# Altium schematic symbol library jlcpcb_2025_04_inductors_extended_1008.schlib: 378 symbols (part 3 of 7)
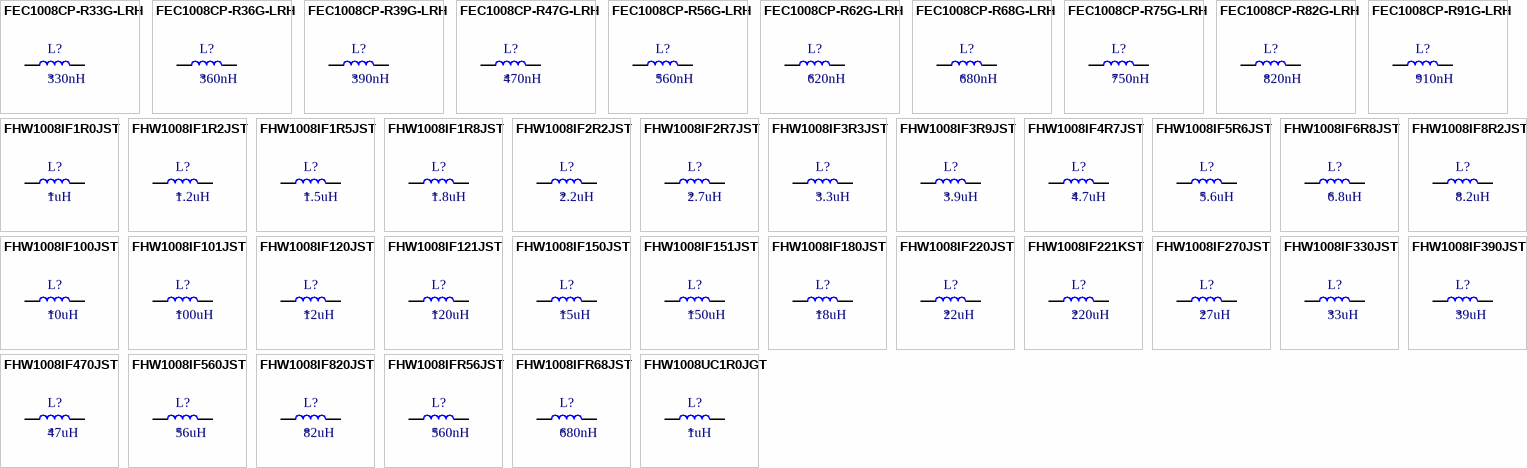
[diagram p11: symbols FEC1008CP-R33G-LRH to FHW1008UC1R0JGT]

## FHW1008IF151JST
designator L?  Inductance: 150uH
Inductor, 150uH, ±5%, 15Ω, 25mA, SMD 1008; Manufacturer: FH(Guangdong Fenghua Advanced Tech); Manufacturer Part Number: FHW1008IF151JST; Self-Resonant Frequency: 3MHz; Q Factor: 8@796kHz; Package Size: 1008; JLCPCB Basic Part: No; JLCPCB Part Number: C394079; Supplier 1: LCSC; Category: Inductors; Supplier Part Number 1: C394079; Tolerance: ±5%; Rated Current: 25mA; DC Resistance: 15Ω; RoHS: Yes; ComponentLink1Description: Datasheet; ComponentLink1URL: https://wmsc.lcsc.com/wmsc/upload/file/pdf/v2/lcsc/2303141830_FH--Guangdong-Fenghua-Advanced-Tech-FHW1008IF151JST_C394079.pdf; ComponentLink2Description: JLCPCB Part URL; ComponentLink2URL: https://jlcpcb.com/partdetail/C394079; ComponentLink3Description: LCSC Part URL; ComponentLink3URL: https://lcsc.com/product-detail/Inductors-SMD_FH-Guangdong-Fenghua-Advanced-Tech-FH-Guangdong-Fenghua-Advanced-Tech-FHW1008IF151JST_C394079.html
footprint IND-1008 (1008 (2520M) Inductor)
pins: 1, 2

## FHW1008IF180JST
designator L?  Inductance: 18uH
Inductor, 18uH, ±5%, 3Ω, 130mA, SMD 1008; Manufacturer: FH(Guangdong Fenghua Advanced Tech); Manufacturer Part Number: FHW1008IF180JST; Self-Resonant Frequency: 20MHz; Q Factor: 10@2.52MHz; Package Size: 1008; JLCPCB Basic Part: No; JLCPCB Part Number: C394068; Supplier 1: LCSC; Category: Inductors; Supplier Part Number 1: C394068; Tolerance: ±5%; Rated Current: 130mA; DC Resistance: 3Ω; RoHS: Yes; ComponentLink1Description: Datasheet; ComponentLink1URL: https://wmsc.lcsc.com/wmsc/upload/file/pdf/v2/lcsc/2303141830_FH--Guangdong-Fenghua-Advanced-Tech-FHW1008IF180JST_C394068.pdf; ComponentLink2Description: JLCPCB Part URL; ComponentLink2URL: https://jlcpcb.com/partdetail/C394068; ComponentLink3Description: LCSC Part URL; ComponentLink3URL: https://lcsc.com/product-detail/Inductors-SMD_FH-Guangdong-Fenghua-Advanced-Tech-FH-Guangdong-Fenghua-Advanced-Tech-FHW1008IF180JST_C394068.html
footprint IND-1008 (1008 (2520M) Inductor)
pins: 1, 2

## FHW1008IF220JST
designator L?  Inductance: 22uH
Inductor, 22uH, ±5%, 3.9Ω, 105mA, SMD 1008; Manufacturer: FH(Guangdong Fenghua Advanced Tech); Manufacturer Part Number: FHW1008IF220JST; Self-Resonant Frequency: 18MHz; Q Factor: 10@2.52MHz; Package Size: 1008; JLCPCB Basic Part: No; JLCPCB Part Number: C394069; Supplier 1: LCSC; Category: Inductors; Supplier Part Number 1: C394069; Tolerance: ±5%; Rated Current: 105mA; DC Resistance: 3.9Ω; RoHS: Yes; ComponentLink1Description: Datasheet; ComponentLink1URL: https://wmsc.lcsc.com/wmsc/upload/file/pdf/v2/lcsc/2303141830_FH--Guangdong-Fenghua-Advanced-Tech-FHW1008IF220JST_C394069.pdf; ComponentLink2Description: JLCPCB Part URL; ComponentLink2URL: https://jlcpcb.com/partdetail/C394069; ComponentLink3Description: LCSC Part URL; ComponentLink3URL: https://lcsc.com/product-detail/Inductors-SMD_FH-Guangdong-Fenghua-Advanced-Tech-FH-Guangdong-Fenghua-Advanced-Tech-FHW1008IF220JST_C394069.html
footprint IND-1008 (1008 (2520M) Inductor)
pins: 1, 2

## FHW1008IF221KST
designator L?  Inductance: 220uH
Inductor, 220uH, ±10%, 18Ω, 20mA, SMD 1008; Manufacturer: FH(Guangdong Fenghua Advanced Tech); Manufacturer Part Number: FHW1008IF221KST; Self-Resonant Frequency: 2.5MHz; Q Factor: 8@796kHz; Package Size: 1008; JLCPCB Basic Part: No; JLCPCB Part Number: C394080; Supplier 1: LCSC; Category: Inductors; Supplier Part Number 1: C394080; Tolerance: ±10%; Rated Current: 20mA; DC Resistance: 18Ω; RoHS: Yes; ComponentLink1Description: Datasheet; ComponentLink1URL: https://wmsc.lcsc.com/wmsc/upload/file/pdf/v2/lcsc/2303141830_FH--Guangdong-Fenghua-Advanced-Tech-FHW1008IF221KST_C394080.pdf; ComponentLink2Description: JLCPCB Part URL; ComponentLink2URL: https://jlcpcb.com/partdetail/C394080; ComponentLink3Description: LCSC Part URL; ComponentLink3URL: https://lcsc.com/product-detail/Inductors-SMD_FH-Guangdong-Fenghua-Advanced-Tech-FH-Guangdong-Fenghua-Advanced-Tech-FHW1008IF221KST_C394080.html
footprint IND-1008 (1008 (2520M) Inductor)
pins: 1, 2

## FHW1008IF270JST
designator L?  Inductance: 27uH
Inductor, 27uH, ±5%, 4Ω, 100mA, SMD 1008; Manufacturer: FH(Guangdong Fenghua Advanced Tech); Manufacturer Part Number: FHW1008IF270JST; Self-Resonant Frequency: 10MHz; Q Factor: 10@2.52MHz; Package Size: 1008; JLCPCB Basic Part: No; JLCPCB Part Number: C394070; Supplier 1: LCSC; Category: Inductors; Supplier Part Number 1: C394070; Tolerance: ±5%; Rated Current: 100mA; DC Resistance: 4Ω; RoHS: Yes; ComponentLink1Description: Datasheet; ComponentLink1URL: https://wmsc.lcsc.com/wmsc/upload/file/pdf/v2/lcsc/2303141830_FH--Guangdong-Fenghua-Advanced-Tech-FHW1008IF270JST_C394070.pdf; ComponentLink2Description: JLCPCB Part URL; ComponentLink2URL: https://jlcpcb.com/partdetail/C394070; ComponentLink3Description: LCSC Part URL; ComponentLink3URL: https://lcsc.com/product-detail/Inductors-SMD_FH-Guangdong-Fenghua-Advanced-Tech-FH-Guangdong-Fenghua-Advanced-Tech-FHW1008IF270JST_C394070.html
footprint IND-1008 (1008 (2520M) Inductor)
pins: 1, 2

## FHW1008IF330JST
designator L?  Inductance: 33uH
Inductor, 33uH, ±5%, 4.8Ω, 85mA, SMD 1008; Manufacturer: FH(Guangdong Fenghua Advanced Tech); Manufacturer Part Number: FHW1008IF330JST; Self-Resonant Frequency: 8MHz; Q Factor: 10@2.52MHz; Package Size: 1008; JLCPCB Basic Part: No; JLCPCB Part Number: C394071; Supplier 1: LCSC; Category: Inductors; Supplier Part Number 1: C394071; Tolerance: ±5%; Rated Current: 85mA; DC Resistance: 4.8Ω; RoHS: Yes; ComponentLink1Description: Datasheet; ComponentLink1URL: https://wmsc.lcsc.com/wmsc/upload/file/pdf/v2/lcsc/2303141830_FH--Guangdong-Fenghua-Advanced-Tech-FHW1008IF330JST_C394071.pdf; ComponentLink2Description: JLCPCB Part URL; ComponentLink2URL: https://jlcpcb.com/partdetail/C394071; ComponentLink3Description: LCSC Part URL; ComponentLink3URL: https://lcsc.com/product-detail/Inductors-SMD_FH-Guangdong-Fenghua-Advanced-Tech-FH-Guangdong-Fenghua-Advanced-Tech-FHW1008IF330JST_C394071.html
footprint IND-1008 (1008 (2520M) Inductor)
pins: 1, 2

## FHW1008IF390JST
designator L?  Inductance: 39uH
Inductor, 39uH, ±5%, 5Ω, 80mA, SMD 1008; Manufacturer: FH(Guangdong Fenghua Advanced Tech); Manufacturer Part Number: FHW1008IF390JST; Self-Resonant Frequency: 7MHz; Q Factor: 10@2.52MHz; Package Size: 1008; JLCPCB Basic Part: No; JLCPCB Part Number: C394072; Supplier 1: LCSC; Category: Inductors; Supplier Part Number 1: C394072; Tolerance: ±5%; Rated Current: 80mA; DC Resistance: 5Ω; RoHS: Yes; ComponentLink1Description: Datasheet; ComponentLink1URL: https://wmsc.lcsc.com/wmsc/upload/file/pdf/v2/lcsc/2303141830_FH--Guangdong-Fenghua-Advanced-Tech-FHW1008IF390JST_C394072.pdf; ComponentLink2Description: JLCPCB Part URL; ComponentLink2URL: https://jlcpcb.com/partdetail/C394072; ComponentLink3Description: LCSC Part URL; ComponentLink3URL: https://lcsc.com/product-detail/Inductors-SMD_FH-Guangdong-Fenghua-Advanced-Tech-FH-Guangdong-Fenghua-Advanced-Tech-FHW1008IF390JST_C394072.html
footprint IND-1008 (1008 (2520M) Inductor)
pins: 1, 2

## FHW1008IF470JST
designator L?  Inductance: 47uH
Inductor, 47uH, ±5%, 5.7Ω, 60mA, SMD 1008; Manufacturer: FH(Guangdong Fenghua Advanced Tech); Manufacturer Part Number: FHW1008IF470JST; Self-Resonant Frequency: 7MHz; Q Factor: 10@2.52MHz; Package Size: 1008; JLCPCB Basic Part: No; JLCPCB Part Number: C394073; Supplier 1: LCSC; Category: Inductors; Supplier Part Number 1: C394073; Tolerance: ±5%; Rated Current: 60mA; DC Resistance: 5.7Ω; RoHS: Yes; ComponentLink1Description: Datasheet; ComponentLink1URL: https://wmsc.lcsc.com/wmsc/upload/file/pdf/v2/lcsc/2303141830_FH--Guangdong-Fenghua-Advanced-Tech-FHW1008IF470JST_C394073.pdf; ComponentLink2Description: JLCPCB Part URL; ComponentLink2URL: https://jlcpcb.com/partdetail/C394073; ComponentLink3Description: LCSC Part URL; ComponentLink3URL: https://lcsc.com/product-detail/Inductors-SMD_FH-Guangdong-Fenghua-Advanced-Tech-FH-Guangdong-Fenghua-Advanced-Tech-FHW1008IF470JST_C394073.html
footprint IND-1008 (1008 (2520M) Inductor)
pins: 1, 2

## FHW1008IF560JST
designator L?  Inductance: 56uH
Inductor, 56uH, ±5%, 6Ω, 55mA, SMD 1008; Manufacturer: FH(Guangdong Fenghua Advanced Tech); Manufacturer Part Number: FHW1008IF560JST; Self-Resonant Frequency: 6.5MHz; Q Factor: 10@2.52MHz; Package Size: 1008; JLCPCB Basic Part: No; JLCPCB Part Number: C394074; Supplier 1: LCSC; Category: Inductors; Supplier Part Number 1: C394074; Tolerance: ±5%; Rated Current: 55mA; DC Resistance: 6Ω; RoHS: Yes; ComponentLink1Description: Datasheet; ComponentLink1URL: https://wmsc.lcsc.com/wmsc/upload/file/pdf/v2/lcsc/2303141830_FH--Guangdong-Fenghua-Advanced-Tech-FHW1008IF560JST_C394074.pdf; ComponentLink2Description: JLCPCB Part URL; ComponentLink2URL: https://jlcpcb.com/partdetail/C394074; ComponentLink3Description: LCSC Part URL; ComponentLink3URL: https://lcsc.com/product-detail/Inductors-SMD_FH-Guangdong-Fenghua-Advanced-Tech-FH-Guangdong-Fenghua-Advanced-Tech-FHW1008IF560JST_C394074.html
footprint IND-1008 (1008 (2520M) Inductor)
pins: 1, 2

## FHW1008IF820JST
designator L?  Inductance: 82uH
Inductor, 82uH, ±5%, 7.5Ω, 45mA, SMD 1008; Manufacturer: FH(Guangdong Fenghua Advanced Tech); Manufacturer Part Number: FHW1008IF820JST; Self-Resonant Frequency: 6.5MHz; Q Factor: 10@2.52MHz; Package Size: 1008; JLCPCB Basic Part: No; JLCPCB Part Number: C394076; Supplier 1: LCSC; Category: Inductors; Supplier Part Number 1: C394076; Tolerance: ±5%; Rated Current: 45mA; DC Resistance: 7.5Ω; RoHS: Yes; ComponentLink1Description: Datasheet; ComponentLink1URL: https://wmsc.lcsc.com/wmsc/upload/file/pdf/v2/lcsc/2303141830_FH--Guangdong-Fenghua-Advanced-Tech-FHW1008IF820JST_C394076.pdf; ComponentLink2Description: JLCPCB Part URL; ComponentLink2URL: https://jlcpcb.com/partdetail/C394076; ComponentLink3Description: LCSC Part URL; ComponentLink3URL: https://lcsc.com/product-detail/Inductors-SMD_FH-Guangdong-Fenghua-Advanced-Tech-FH-Guangdong-Fenghua-Advanced-Tech-FHW1008IF820JST_C394076.html
footprint IND-1008 (1008 (2520M) Inductor)
pins: 1, 2

## FHW1008IFR56JST
designator L?  Inductance: 560nH
Inductor, 560nH, ±5%, 420mΩ, 600mA, SMD 1008; Manufacturer: FH(Guangdong Fenghua Advanced Tech); Manufacturer Part Number: FHW1008IFR56JST; Self-Resonant Frequency: 330MHz; Q Factor: 12@25.2MHz; Package Size: 1008; JLCPCB Basic Part: No; JLCPCB Part Number: C394001; Supplier 1: LCSC; Category: Inductors; Supplier Part Number 1: C394001; Tolerance: ±5%; Rated Current: 600mA; DC Resistance: 420mΩ; RoHS: Yes; ComponentLink1Description: Datasheet; ComponentLink1URL: https://wmsc.lcsc.com/wmsc/upload/file/pdf/v2/lcsc/2303141830_FH--Guangdong-Fenghua-Advanced-Tech-FHW1008IFR56JST_C394001.pdf; ComponentLink2Description: JLCPCB Part URL; ComponentLink2URL: https://jlcpcb.com/partdetail/C394001; ComponentLink3Description: LCSC Part URL; ComponentLink3URL: https://lcsc.com/product-detail/Inductors-SMD_FH-Guangdong-Fenghua-Advanced-Tech-FH-Guangdong-Fenghua-Advanced-Tech-FHW1008IFR56JST_C394001.html
footprint IND-1008 (1008 (2520M) Inductor)
pins: 1, 2

## FHW1008IFR68JST
designator L?  Inductance: 680nH
Inductor, 680nH, ±5%, 450mΩ, 600mA, SMD 1008; Manufacturer: FH(Guangdong Fenghua Advanced Tech); Manufacturer Part Number: FHW1008IFR68JST; Self-Resonant Frequency: 330MHz; Q Factor: 12@25.2MHz; Package Size: 1008; JLCPCB Basic Part: No; JLCPCB Part Number: C394002; Supplier 1: LCSC; Category: Inductors; Supplier Part Number 1: C394002; Tolerance: ±5%; Rated Current: 600mA; DC Resistance: 450mΩ; RoHS: Yes; ComponentLink1Description: Datasheet; ComponentLink1URL: https://wmsc.lcsc.com/wmsc/upload/file/pdf/v2/lcsc/2303141830_FH--Guangdong-Fenghua-Advanced-Tech-FHW1008IFR68JST_C394002.pdf; ComponentLink2Description: JLCPCB Part URL; ComponentLink2URL: https://jlcpcb.com/partdetail/C394002; ComponentLink3Description: LCSC Part URL; ComponentLink3URL: https://lcsc.com/product-detail/Inductors-SMD_FH-Guangdong-Fenghua-Advanced-Tech-FH-Guangdong-Fenghua-Advanced-Tech-FHW1008IFR68JST_C394002.html
footprint IND-1008 (1008 (2520M) Inductor)
pins: 1, 2

## FHW1008UC1R0JGT
designator L?  Inductance: 1uH
Inductor, 1uH, ±5%, 1.75Ω, 370mA, SMD 1008; Manufacturer: FH(Guangdong Fenghua Advanced Tech); Manufacturer Part Number: FHW1008UC1R0JGT; Self-Resonant Frequency: 210MHz; Q Factor: 35@50MHz; Package Size: 1008; JLCPCB Basic Part: No; JLCPCB Part Number: C318016; Supplier 1: LCSC; Category: Inductors; Supplier Part Number 1: C318016; Tolerance: ±5%; Rated Current: 370mA; DC Resistance: 1.75Ω; RoHS: Yes; ComponentLink1Description: Datasheet; ComponentLink1URL: https://wmsc.lcsc.com/wmsc/upload/file/pdf/v2/lcsc/2302231208_FH--Guangdong-Fenghua-Advanced-Tech-FHW1008UC1R0JGT_C318016.pdf; ComponentLink2Description: JLCPCB Part URL; ComponentLink2URL: https://jlcpcb.com/partdetail/C318016; ComponentLink3Description: LCSC Part URL; ComponentLink3URL: https://lcsc.com/product-detail/Inductors-SMD_FH-Guangdong-Fenghua-Advanced-Tech-FH-Guangdong-Fenghua-Advanced-Tech-FHW1008UC1R0JGT_C318016.html
footprint IND-1008 (1008 (2520M) Inductor)
pins: 1, 2

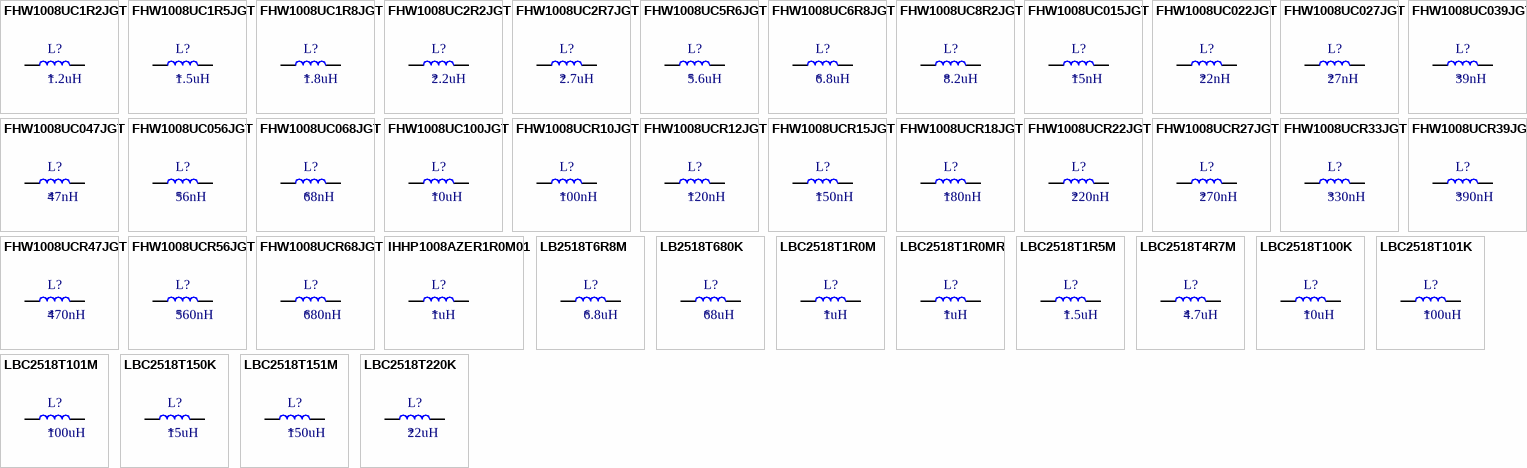
[diagram p3: symbols FHW1008UC1R2JGT to LBC2518T220K]

## FHW1008UC1R2JGT
designator L?  Inductance: 1.2uH
Inductor, 1.2uH, ±5%, 2Ω, 310mA, SMD 1008; Manufacturer: FH(Guangdong Fenghua Advanced Tech); Manufacturer Part Number: FHW1008UC1R2JGT; Self-Resonant Frequency: 200MHz; Q Factor: 35@50MHz; Package Size: 1008; JLCPCB Basic Part: No; JLCPCB Part Number: C318017; Supplier 1: LCSC; Category: Inductors; Supplier Part Number 1: C318017; Tolerance: ±5%; Rated Current: 310mA; DC Resistance: 2Ω; RoHS: Yes; ComponentLink1Description: Datasheet; ComponentLink1URL: https://wmsc.lcsc.com/wmsc/upload/file/pdf/v2/lcsc/2302231208_FH--Guangdong-Fenghua-Advanced-Tech-FHW1008UC1R2JGT_C318017.pdf; ComponentLink2Description: JLCPCB Part URL; ComponentLink2URL: https://jlcpcb.com/partdetail/C318017; ComponentLink3Description: LCSC Part URL; ComponentLink3URL: https://lcsc.com/product-detail/Inductors-SMD_FH-Guangdong-Fenghua-Advanced-Tech-FH-Guangdong-Fenghua-Advanced-Tech-FHW1008UC1R2JGT_C318017.html
footprint IND-1008 (1008 (2520M) Inductor)
pins: 1, 2

## FHW1008UC1R5JGT
designator L?  Inductance: 1.5uH
Inductor, 1.5uH, ±5%, 2.3Ω, 330mA, SMD 1008; Manufacturer: FH(Guangdong Fenghua Advanced Tech); Manufacturer Part Number: FHW1008UC1R5JGT; Self-Resonant Frequency: 180MHz; Q Factor: 28@50MHz; Package Size: 1008; JLCPCB Basic Part: No; JLCPCB Part Number: C318018; Supplier 1: LCSC; Category: Inductors; Supplier Part Number 1: C318018; Tolerance: ±5%; Rated Current: 330mA; DC Resistance: 2.3Ω; RoHS: Yes; ComponentLink1Description: Datasheet; ComponentLink1URL: https://wmsc.lcsc.com/wmsc/upload/file/pdf/v2/lcsc/2302231030_FH--Guangdong-Fenghua-Advanced-Tech-FHW1008UC1R5JGT_C318018.pdf; ComponentLink2Description: JLCPCB Part URL; ComponentLink2URL: https://jlcpcb.com/partdetail/C318018; ComponentLink3Description: LCSC Part URL; ComponentLink3URL: https://lcsc.com/product-detail/Inductors-SMD_FH-Guangdong-Fenghua-Advanced-Tech-FH-Guangdong-Fenghua-Advanced-Tech-FHW1008UC1R5JGT_C318018.html
footprint IND-1008 (1008 (2520M) Inductor)
pins: 1, 2

## FHW1008UC1R8JGT
designator L?  Inductance: 1.8uH
Inductor, 1.8uH, ±5%, 2.6Ω, 300mA, SMD 1008; Manufacturer: FH(Guangdong Fenghua Advanced Tech); Manufacturer Part Number: FHW1008UC1R8JGT; Self-Resonant Frequency: 160MHz; Q Factor: 28@50MHz; Package Size: 1008; JLCPCB Basic Part: No; JLCPCB Part Number: C318019; Supplier 1: LCSC; Category: Inductors; Supplier Part Number 1: C318019; Tolerance: ±5%; Rated Current: 300mA; DC Resistance: 2.6Ω; RoHS: Yes; ComponentLink1Description: Datasheet; ComponentLink1URL: https://wmsc.lcsc.com/wmsc/upload/file/pdf/v2/lcsc/2302231030_FH--Guangdong-Fenghua-Advanced-Tech-FHW1008UC1R8JGT_C318019.pdf; ComponentLink2Description: JLCPCB Part URL; ComponentLink2URL: https://jlcpcb.com/partdetail/C318019; ComponentLink3Description: LCSC Part URL; ComponentLink3URL: https://lcsc.com/product-detail/Inductors-SMD_FH-Guangdong-Fenghua-Advanced-Tech-FH-Guangdong-Fenghua-Advanced-Tech-FHW1008UC1R8JGT_C318019.html
footprint IND-1008 (1008 (2520M) Inductor)
pins: 1, 2

## FHW1008UC2R2JGT
designator L?  Inductance: 2.2uH
Inductor, 2.2uH, ±5%, 2.8Ω, 280mA, SMD 1008; Manufacturer: FH(Guangdong Fenghua Advanced Tech); Manufacturer Part Number: FHW1008UC2R2JGT; Self-Resonant Frequency: 90MHz; Q Factor: 20@50MHz; Package Size: 1008; JLCPCB Basic Part: No; JLCPCB Part Number: C318020; Supplier 1: LCSC; Category: Inductors; Supplier Part Number 1: C318020; Tolerance: ±5%; Rated Current: 280mA; DC Resistance: 2.8Ω; RoHS: Yes; ComponentLink1Description: Datasheet; ComponentLink1URL: https://wmsc.lcsc.com/wmsc/upload/file/pdf/v2/lcsc/2302231030_FH--Guangdong-Fenghua-Advanced-Tech-FHW1008UC2R2JGT_C318020.pdf; ComponentLink2Description: JLCPCB Part URL; ComponentLink2URL: https://jlcpcb.com/partdetail/C318020; ComponentLink3Description: LCSC Part URL; ComponentLink3URL: https://lcsc.com/product-detail/Inductors-SMD_FH-Guangdong-Fenghua-Advanced-Tech-FH-Guangdong-Fenghua-Advanced-Tech-FHW1008UC2R2JGT_C318020.html
footprint IND-1008 (1008 (2520M) Inductor)
pins: 1, 2

## FHW1008UC2R7JGT
designator L?  Inductance: 2.7uH
Inductor, 2.7uH, ±5%, 3.2Ω, 290mA, SMD 1008; Manufacturer: FH(Guangdong Fenghua Advanced Tech); Manufacturer Part Number: FHW1008UC2R7JGT; Self-Resonant Frequency: 80MHz; Q Factor: 22@25MHz; Package Size: 1008; JLCPCB Basic Part: No; JLCPCB Part Number: C318021; Supplier 1: LCSC; Category: Inductors; Supplier Part Number 1: C318021; Tolerance: ±5%; Rated Current: 290mA; DC Resistance: 3.2Ω; RoHS: Yes; ComponentLink1Description: Datasheet; ComponentLink1URL: https://wmsc.lcsc.com/wmsc/upload/file/pdf/v2/lcsc/2302231030_FH--Guangdong-Fenghua-Advanced-Tech-FHW1008UC2R7JGT_C318021.pdf; ComponentLink2Description: JLCPCB Part URL; ComponentLink2URL: https://jlcpcb.com/partdetail/C318021; ComponentLink3Description: LCSC Part URL; ComponentLink3URL: https://lcsc.com/product-detail/Inductors-SMD_FH-Guangdong-Fenghua-Advanced-Tech-FH-Guangdong-Fenghua-Advanced-Tech-FHW1008UC2R7JGT_C318021.html
footprint IND-1008 (1008 (2520M) Inductor)
pins: 1, 2

## FHW1008UC5R6JGT
designator L?  Inductance: 5.6uH
Inductor, 5.6uH, ±5%, 7.6Ω, 240mA, SMD 1008; Manufacturer: FH(Guangdong Fenghua Advanced Tech); Manufacturer Part Number: FHW1008UC5R6JGT; Self-Resonant Frequency: 55MHz; Q Factor: 18@7.9MHz; Package Size: 1008; JLCPCB Basic Part: No; JLCPCB Part Number: C318025; Supplier 1: LCSC; Category: Inductors; Supplier Part Number 1: C318025; Tolerance: ±5%; Rated Current: 240mA; DC Resistance: 7.6Ω; RoHS: Yes; ComponentLink1Description: Datasheet; ComponentLink1URL: https://wmsc.lcsc.com/wmsc/upload/file/pdf/v2/lcsc/2302231030_FH--Guangdong-Fenghua-Advanced-Tech-FHW1008UC5R6JGT_C318025.pdf; ComponentLink2Description: JLCPCB Part URL; ComponentLink2URL: https://jlcpcb.com/partdetail/C318025; ComponentLink3Description: LCSC Part URL; ComponentLink3URL: https://lcsc.com/product-detail/Inductors-SMD_FH-Guangdong-Fenghua-Advanced-Tech-FH-Guangdong-Fenghua-Advanced-Tech-FHW1008UC5R6JGT_C318025.html
footprint IND-1008 (1008 (2520M) Inductor)
pins: 1, 2

## FHW1008UC6R8JGT
designator L?  Inductance: 6.8uH
Inductor, 6.8uH, ±5%, 8.2Ω, 200mA, SMD 1008; Manufacturer: FH(Guangdong Fenghua Advanced Tech); Manufacturer Part Number: FHW1008UC6R8JGT; Self-Resonant Frequency: 50MHz; Q Factor: 18@7.9MHz; Package Size: 1008; JLCPCB Basic Part: No; JLCPCB Part Number: C318026; Supplier 1: LCSC; Category: Inductors; Supplier Part Number 1: C318026; Tolerance: ±5%; Rated Current: 200mA; DC Resistance: 8.2Ω; RoHS: Yes; ComponentLink1Description: Datasheet; ComponentLink1URL: https://wmsc.lcsc.com/wmsc/upload/file/pdf/v2/lcsc/2302231030_FH--Guangdong-Fenghua-Advanced-Tech-FHW1008UC6R8JGT_C318026.pdf; ComponentLink2Description: JLCPCB Part URL; ComponentLink2URL: https://jlcpcb.com/partdetail/C318026; ComponentLink3Description: LCSC Part URL; ComponentLink3URL: https://lcsc.com/product-detail/Inductors-SMD_FH-Guangdong-Fenghua-Advanced-Tech-FH-Guangdong-Fenghua-Advanced-Tech-FHW1008UC6R8JGT_C318026.html
footprint IND-1008 (1008 (2520M) Inductor)
pins: 1, 2

## FHW1008UC8R2JGT
designator L?  Inductance: 8.2uH
Inductor, 8.2uH, ±5%, 8.2Ω, 170mA, SMD 1008; Manufacturer: FH(Guangdong Fenghua Advanced Tech); Manufacturer Part Number: FHW1008UC8R2JGT; Self-Resonant Frequency: 40MHz; Q Factor: 18@7.9MHz; Package Size: 1008; JLCPCB Basic Part: No; JLCPCB Part Number: C318027; Supplier 1: LCSC; Category: Inductors; Supplier Part Number 1: C318027; Tolerance: ±5%; Rated Current: 170mA; DC Resistance: 8.2Ω; RoHS: Yes; ComponentLink1Description: Datasheet; ComponentLink1URL: https://wmsc.lcsc.com/wmsc/upload/file/pdf/v2/lcsc/2302231030_FH--Guangdong-Fenghua-Advanced-Tech-FHW1008UC8R2JGT_C318027.pdf; ComponentLink2Description: JLCPCB Part URL; ComponentLink2URL: https://jlcpcb.com/partdetail/C318027; ComponentLink3Description: LCSC Part URL; ComponentLink3URL: https://lcsc.com/product-detail/Inductors-SMD_FH-Guangdong-Fenghua-Advanced-Tech-FH-Guangdong-Fenghua-Advanced-Tech-FHW1008UC8R2JGT_C318027.html
footprint IND-1008 (1008 (2520M) Inductor)
pins: 1, 2

## FHW1008UC015JGT
designator L?  Inductance: 15nH
Inductor, 15nH, ±5%, 150mΩ, 1A, SMD 1008; Manufacturer: FH(Guangdong Fenghua Advanced Tech); Manufacturer Part Number: FHW1008UC015JGT; Self-Resonant Frequency: 2.5GHz; Q Factor: 45@500MHz; Package Size: 1008; JLCPCB Basic Part: No; JLCPCB Part Number: C75641; Supplier 1: LCSC; Category: Inductors; Supplier Part Number 1: C75641; Tolerance: ±5%; Rated Current: 1A; DC Resistance: 150mΩ; RoHS: Yes; ComponentLink1Description: Datasheet; ComponentLink1URL: https://wmsc.lcsc.com/wmsc/upload/file/pdf/v2/lcsc/2302231101_FH--Guangdong-Fenghua-Advanced-Tech-FHW1008UC015JGT_C75641.pdf; ComponentLink2Description: JLCPCB Part URL; ComponentLink2URL: https://jlcpcb.com/partdetail/C75641; ComponentLink3Description: LCSC Part URL; ComponentLink3URL: https://lcsc.com/product-detail/Inductors-SMD_FH-Guangdong-Fenghua-Advanced-Tech-FH-Guangdong-Fenghua-Advanced-Tech-FHW1008UC015JGT_C75641.html
footprint IND-1008 (1008 (2520M) Inductor)
pins: 1, 2

## FHW1008UC022JGT
designator L?  Inductance: 22nH
Inductor, 22nH, ±5%, 120mΩ, 1A, SMD 1008; Manufacturer: FH(Guangdong Fenghua Advanced Tech); Manufacturer Part Number: FHW1008UC022JGT; Self-Resonant Frequency: 2.4GHz; Q Factor: 55@350MHz; Package Size: 1008; JLCPCB Basic Part: No; JLCPCB Part Number: C317999; Supplier 1: LCSC; Category: Inductors; Supplier Part Number 1: C317999; Tolerance: ±5%; Rated Current: 1A; DC Resistance: 120mΩ; RoHS: Yes; ComponentLink1Description: Datasheet; ComponentLink1URL: https://wmsc.lcsc.com/wmsc/upload/file/pdf/v2/lcsc/2302231208_FH--Guangdong-Fenghua-Advanced-Tech-FHW1008UC022JGT_C317999.pdf; ComponentLink2Description: JLCPCB Part URL; ComponentLink2URL: https://jlcpcb.com/partdetail/C317999; ComponentLink3Description: LCSC Part URL; ComponentLink3URL: https://lcsc.com/product-detail/Inductors-SMD_FH-Guangdong-Fenghua-Advanced-Tech-FH-Guangdong-Fenghua-Advanced-Tech-FHW1008UC022JGT_C317999.html
footprint IND-1008 (1008 (2520M) Inductor)
pins: 1, 2

## FHW1008UC027JGT
designator L?  Inductance: 27nH
Inductor, 27nH, ±5%, 130mΩ, 1A, SMD 1008; Manufacturer: FH(Guangdong Fenghua Advanced Tech); Manufacturer Part Number: FHW1008UC027JGT; Self-Resonant Frequency: 1.6GHz; Q Factor: 55@350MHz; Package Size: 1008; JLCPCB Basic Part: No; JLCPCB Part Number: C295708; Supplier 1: LCSC; Category: Inductors; Supplier Part Number 1: C295708; Tolerance: ±5%; Rated Current: 1A; DC Resistance: 130mΩ; RoHS: Yes; ComponentLink1Description: Datasheet; ComponentLink1URL: https://wmsc.lcsc.com/wmsc/upload/file/pdf/v2/lcsc/2302231208_FH--Guangdong-Fenghua-Advanced-Tech-FHW1008UC027JGT_C295708.pdf; ComponentLink2Description: JLCPCB Part URL; ComponentLink2URL: https://jlcpcb.com/partdetail/C295708; ComponentLink3Description: LCSC Part URL; ComponentLink3URL: https://lcsc.com/product-detail/Inductors-SMD_FH-Guangdong-Fenghua-Advanced-Tech-FH-Guangdong-Fenghua-Advanced-Tech-FHW1008UC027JGT_C295708.html
footprint IND-1008 (1008 (2520M) Inductor)
pins: 1, 2

## FHW1008UC039JGT
designator L?  Inductance: 39nH
Inductor, 39nH, ±5%, 150mΩ, 1A, SMD 1008; Manufacturer: FH(Guangdong Fenghua Advanced Tech); Manufacturer Part Number: FHW1008UC039JGT; Self-Resonant Frequency: 1.5GHz; Q Factor: 60@350MHz; Package Size: 1008; JLCPCB Basic Part: No; JLCPCB Part Number: C318001; Supplier 1: LCSC; Category: Inductors; Supplier Part Number 1: C318001; Tolerance: ±5%; Rated Current: 1A; DC Resistance: 150mΩ; RoHS: Yes; ComponentLink1Description: Datasheet; ComponentLink1URL: https://wmsc.lcsc.com/wmsc/upload/file/pdf/v2/lcsc/2302231208_FH--Guangdong-Fenghua-Advanced-Tech-FHW1008UC039JGT_C318001.pdf; ComponentLink2Description: JLCPCB Part URL; ComponentLink2URL: https://jlcpcb.com/partdetail/C318001; ComponentLink3Description: LCSC Part URL; ComponentLink3URL: https://lcsc.com/product-detail/Inductors-SMD_FH-Guangdong-Fenghua-Advanced-Tech-FH-Guangdong-Fenghua-Advanced-Tech-FHW1008UC039JGT_C318001.html
footprint IND-1008 (1008 (2520M) Inductor)
pins: 1, 2

## FHW1008UC047JGT
designator L?  Inductance: 47nH
Inductor, 47nH, ±5%, 160mΩ, 1A, SMD 1008; Manufacturer: FH(Guangdong Fenghua Advanced Tech); Manufacturer Part Number: FHW1008UC047JGT; Self-Resonant Frequency: 1.5GHz; Q Factor: 65@350MHz; Package Size: 1008; JLCPCB Basic Part: No; JLCPCB Part Number: C318002; Supplier 1: LCSC; Category: Inductors; Supplier Part Number 1: C318002; Tolerance: ±5%; Rated Current: 1A; DC Resistance: 160mΩ; RoHS: Yes; ComponentLink1Description: Datasheet; ComponentLink1URL: https://wmsc.lcsc.com/wmsc/upload/file/pdf/v2/lcsc/2302231208_FH--Guangdong-Fenghua-Advanced-Tech-FHW1008UC047JGT_C318002.pdf; ComponentLink2Description: JLCPCB Part URL; ComponentLink2URL: https://jlcpcb.com/partdetail/C318002; ComponentLink3Description: LCSC Part URL; ComponentLink3URL: https://lcsc.com/product-detail/Inductors-SMD_FH-Guangdong-Fenghua-Advanced-Tech-FH-Guangdong-Fenghua-Advanced-Tech-FHW1008UC047JGT_C318002.html
footprint IND-1008 (1008 (2520M) Inductor)
pins: 1, 2

## FHW1008UC056JGT
designator L?  Inductance: 56nH
Inductor, 56nH, ±5%, 180mΩ, 1A, SMD 1008; Manufacturer: FH(Guangdong Fenghua Advanced Tech); Manufacturer Part Number: FHW1008UC056JGT; Self-Resonant Frequency: 1.1GHz; Q Factor: 65@350MHz; Package Size: 1008; JLCPCB Basic Part: No; JLCPCB Part Number: C318003; Supplier 1: LCSC; Category: Inductors; Supplier Part Number 1: C318003; Tolerance: ±5%; Rated Current: 1A; DC Resistance: 180mΩ; RoHS: Yes; ComponentLink1Description: Datasheet; ComponentLink1URL: https://wmsc.lcsc.com/wmsc/upload/file/pdf/v2/lcsc/2302231208_FH--Guangdong-Fenghua-Advanced-Tech-FHW1008UC056JGT_C318003.pdf; ComponentLink2Description: JLCPCB Part URL; ComponentLink2URL: https://jlcpcb.com/partdetail/C318003; ComponentLink3Description: LCSC Part URL; ComponentLink3URL: https://lcsc.com/product-detail/Inductors-SMD_FH-Guangdong-Fenghua-Advanced-Tech-FH-Guangdong-Fenghua-Advanced-Tech-FHW1008UC056JGT_C318003.html
footprint IND-1008 (1008 (2520M) Inductor)
pins: 1, 2

## FHW1008UC068JGT
designator L?  Inductance: 68nH
Inductor, 68nH, ±5%, 200mΩ, 1A, SMD 1008; Manufacturer: FH(Guangdong Fenghua Advanced Tech); Manufacturer Part Number: FHW1008UC068JGT; Self-Resonant Frequency: 1GHz; Q Factor: 65@350MHz; Package Size: 1008; JLCPCB Basic Part: No; JLCPCB Part Number: C318004; Supplier 1: LCSC; Category: Inductors; Supplier Part Number 1: C318004; Tolerance: ±5%; Rated Current: 1A; DC Resistance: 200mΩ; RoHS: Yes; ComponentLink1Description: Datasheet; ComponentLink1URL: https://wmsc.lcsc.com/wmsc/upload/file/pdf/v2/lcsc/2302231208_FH--Guangdong-Fenghua-Advanced-Tech-FHW1008UC068JGT_C318004.pdf; ComponentLink2Description: JLCPCB Part URL; ComponentLink2URL: https://jlcpcb.com/partdetail/C318004; ComponentLink3Description: LCSC Part URL; ComponentLink3URL: https://lcsc.com/product-detail/Inductors-SMD_FH-Guangdong-Fenghua-Advanced-Tech-FH-Guangdong-Fenghua-Advanced-Tech-FHW1008UC068JGT_C318004.html
footprint IND-1008 (1008 (2520M) Inductor)
pins: 1, 2

## FHW1008UC100JGT
designator L?  Inductance: 10uH
Inductor, 10uH, ±5%, 9.1Ω, 160mA, SMD 1008; Manufacturer: FH(Guangdong Fenghua Advanced Tech); Manufacturer Part Number: FHW1008UC100JGT; Self-Resonant Frequency: 40MHz; Q Factor: 20@7.9MHz; Package Size: 1008; JLCPCB Basic Part: No; JLCPCB Part Number: C318028; Supplier 1: LCSC; Category: Inductors; Supplier Part Number 1: C318028; Tolerance: ±5%; Rated Current: 160mA; DC Resistance: 9.1Ω; RoHS: Yes; ComponentLink1Description: Datasheet; ComponentLink1URL: https://wmsc.lcsc.com/wmsc/upload/file/pdf/v2/lcsc/2302231030_FH--Guangdong-Fenghua-Advanced-Tech-FHW1008UC100JGT_C318028.pdf; ComponentLink2Description: JLCPCB Part URL; ComponentLink2URL: https://jlcpcb.com/partdetail/C318028; ComponentLink3Description: LCSC Part URL; ComponentLink3URL: https://lcsc.com/product-detail/Inductors-SMD_FH-Guangdong-Fenghua-Advanced-Tech-FH-Guangdong-Fenghua-Advanced-Tech-FHW1008UC100JGT_C318028.html
footprint IND-1008 (1008 (2520M) Inductor)
pins: 1, 2

## FHW1008UCR10JGT
designator L?  Inductance: 100nH
Inductor, 100nH, ±5%, 560mΩ, 650mA, SMD 1008; Manufacturer: FH(Guangdong Fenghua Advanced Tech); Manufacturer Part Number: FHW1008UCR10JGT; Self-Resonant Frequency: 1GHz; Q Factor: 60@350MHz; Package Size: 1008; JLCPCB Basic Part: No; JLCPCB Part Number: C318006; Supplier 1: LCSC; Category: Inductors; Supplier Part Number 1: C318006; Tolerance: ±5%; Rated Current: 650mA; DC Resistance: 560mΩ; RoHS: Yes; ComponentLink1Description: Datasheet; ComponentLink1URL: https://wmsc.lcsc.com/wmsc/upload/file/pdf/v2/lcsc/2302231208_FH--Guangdong-Fenghua-Advanced-Tech-FHW1008UCR10JGT_C318006.pdf; ComponentLink2Description: JLCPCB Part URL; ComponentLink2URL: https://jlcpcb.com/partdetail/C318006; ComponentLink3Description: LCSC Part URL; ComponentLink3URL: https://lcsc.com/product-detail/Inductors-SMD_FH-Guangdong-Fenghua-Advanced-Tech-FH-Guangdong-Fenghua-Advanced-Tech-FHW1008UCR10JGT_C318006.html
footprint IND-1008 (1008 (2520M) Inductor)
pins: 1, 2

## FHW1008UCR12JGT
designator L?  Inductance: 120nH
Inductor, 120nH, ±5%, 630mΩ, 650mA, SMD 1008; Manufacturer: FH(Guangdong Fenghua Advanced Tech); Manufacturer Part Number: FHW1008UCR12JGT; Self-Resonant Frequency: 950MHz; Q Factor: 60@350MHz; Package Size: 1008; JLCPCB Basic Part: No; JLCPCB Part Number: C318007; Supplier 1: LCSC; Category: Inductors; Supplier Part Number 1: C318007; Tolerance: ±5%; Rated Current: 650mA; DC Resistance: 630mΩ; RoHS: Yes; ComponentLink1Description: Datasheet; ComponentLink1URL: https://wmsc.lcsc.com/wmsc/upload/file/pdf/v2/lcsc/2302231208_FH--Guangdong-Fenghua-Advanced-Tech-FHW1008UCR12JGT_C318007.pdf; ComponentLink2Description: JLCPCB Part URL; ComponentLink2URL: https://jlcpcb.com/partdetail/C318007; ComponentLink3Description: LCSC Part URL; ComponentLink3URL: https://lcsc.com/product-detail/Inductors-SMD_FH-Guangdong-Fenghua-Advanced-Tech-FH-Guangdong-Fenghua-Advanced-Tech-FHW1008UCR12JGT_C318007.html
footprint IND-1008 (1008 (2520M) Inductor)
pins: 1, 2

## FHW1008UCR15JGT
designator L?  Inductance: 150nH
Inductor, 150nH, ±5%, 700mΩ, 580mA, SMD 1008; Manufacturer: FH(Guangdong Fenghua Advanced Tech); Manufacturer Part Number: FHW1008UCR15JGT; Self-Resonant Frequency: 800MHz; Q Factor: 45@100MHz; Package Size: 1008; JLCPCB Basic Part: No; JLCPCB Part Number: C318008; Supplier 1: LCSC; Category: Inductors; Supplier Part Number 1: C318008; Tolerance: ±5%; Rated Current: 580mA; DC Resistance: 700mΩ; RoHS: Yes; ComponentLink1Description: Datasheet; ComponentLink1URL: https://wmsc.lcsc.com/wmsc/upload/file/pdf/v2/lcsc/2302231208_FH--Guangdong-Fenghua-Advanced-Tech-FHW1008UCR15JGT_C318008.pdf; ComponentLink2Description: JLCPCB Part URL; ComponentLink2URL: https://jlcpcb.com/partdetail/C318008; ComponentLink3Description: LCSC Part URL; ComponentLink3URL: https://lcsc.com/product-detail/Inductors-SMD_FH-Guangdong-Fenghua-Advanced-Tech-FH-Guangdong-Fenghua-Advanced-Tech-FHW1008UCR15JGT_C318008.html
footprint IND-1008 (1008 (2520M) Inductor)
pins: 1, 2

## FHW1008UCR18JGT
designator L?  Inductance: 180nH
Inductor, 180nH, ±5%, 770mΩ, 620mA, SMD 1008; Manufacturer: FH(Guangdong Fenghua Advanced Tech); Manufacturer Part Number: FHW1008UCR18JGT; Self-Resonant Frequency: 640MHz; Q Factor: 45@100MHz; Package Size: 1008; JLCPCB Basic Part: No; JLCPCB Part Number: C318009; Supplier 1: LCSC; Category: Inductors; Supplier Part Number 1: C318009; Tolerance: ±5%; Rated Current: 620mA; DC Resistance: 770mΩ; RoHS: Yes; ComponentLink1Description: Datasheet; ComponentLink1URL: https://wmsc.lcsc.com/wmsc/upload/file/pdf/v2/lcsc/2302231208_FH--Guangdong-Fenghua-Advanced-Tech-FHW1008UCR18JGT_C318009.pdf; ComponentLink2Description: JLCPCB Part URL; ComponentLink2URL: https://jlcpcb.com/partdetail/C318009; ComponentLink3Description: LCSC Part URL; ComponentLink3URL: https://lcsc.com/product-detail/Inductors-SMD_FH-Guangdong-Fenghua-Advanced-Tech-FH-Guangdong-Fenghua-Advanced-Tech-FHW1008UCR18JGT_C318009.html
footprint IND-1008 (1008 (2520M) Inductor)
pins: 1, 2

## FHW1008UCR22JGT
designator L?  Inductance: 220nH
Inductor, 220nH, ±5%, 840mΩ, 500mA, SMD 1008; Manufacturer: FH(Guangdong Fenghua Advanced Tech); Manufacturer Part Number: FHW1008UCR22JGT; Self-Resonant Frequency: 620MHz; Q Factor: 45@100MHz; Package Size: 1008; JLCPCB Basic Part: No; JLCPCB Part Number: C318010; Supplier 1: LCSC; Category: Inductors; Supplier Part Number 1: C318010; Tolerance: ±5%; Rated Current: 500mA; DC Resistance: 840mΩ; RoHS: Yes; ComponentLink1Description: Datasheet; ComponentLink1URL: https://wmsc.lcsc.com/wmsc/upload/file/pdf/v2/lcsc/2302231208_FH--Guangdong-Fenghua-Advanced-Tech-FHW1008UCR22JGT_C318010.pdf; ComponentLink2Description: JLCPCB Part URL; ComponentLink2URL: https://jlcpcb.com/partdetail/C318010; ComponentLink3Description: LCSC Part URL; ComponentLink3URL: https://lcsc.com/product-detail/Inductors-SMD_FH-Guangdong-Fenghua-Advanced-Tech-FH-Guangdong-Fenghua-Advanced-Tech-FHW1008UCR22JGT_C318010.html
footprint IND-1008 (1008 (2520M) Inductor)
pins: 1, 2

## FHW1008UCR27JGT
designator L?  Inductance: 270nH
Inductor, 270nH, ±5%, 910mΩ, 500mA, SMD 1008; Manufacturer: FH(Guangdong Fenghua Advanced Tech); Manufacturer Part Number: FHW1008UCR27JGT; Self-Resonant Frequency: 600MHz; Q Factor: 45@100MHz; Package Size: 1008; JLCPCB Basic Part: No; JLCPCB Part Number: C318011; Supplier 1: LCSC; Category: Inductors; Supplier Part Number 1: C318011; Tolerance: ±5%; Rated Current: 500mA; DC Resistance: 910mΩ; RoHS: Yes; ComponentLink1Description: Datasheet; ComponentLink1URL: https://wmsc.lcsc.com/wmsc/upload/file/pdf/v2/lcsc/2302231208_FH--Guangdong-Fenghua-Advanced-Tech-FHW1008UCR27JGT_C318011.pdf; ComponentLink2Description: JLCPCB Part URL; ComponentLink2URL: https://jlcpcb.com/partdetail/C318011; ComponentLink3Description: LCSC Part URL; ComponentLink3URL: https://lcsc.com/product-detail/Inductors-SMD_FH-Guangdong-Fenghua-Advanced-Tech-FH-Guangdong-Fenghua-Advanced-Tech-FHW1008UCR27JGT_C318011.html
footprint IND-1008 (1008 (2520M) Inductor)
pins: 1, 2

## FHW1008UCR33JGT
designator L?  Inductance: 330nH
Inductor, 330nH, ±5%, 1.05Ω, 450mA, SMD 1008; Manufacturer: FH(Guangdong Fenghua Advanced Tech); Manufacturer Part Number: FHW1008UCR33JGT; Self-Resonant Frequency: 500MHz; Q Factor: 45@100MHz; Package Size: 1008; JLCPCB Basic Part: No; JLCPCB Part Number: C139267; Supplier 1: LCSC; Category: Inductors; Supplier Part Number 1: C139267; Tolerance: ±5%; Rated Current: 450mA; DC Resistance: 1.05Ω; RoHS: Yes; ComponentLink1Description: Datasheet; ComponentLink1URL: https://wmsc.lcsc.com/wmsc/upload/file/pdf/v2/lcsc/2302231230_FH--Guangdong-Fenghua-Advanced-Tech-FHW1008UCR33JGT_C139267.pdf; ComponentLink2Description: JLCPCB Part URL; ComponentLink2URL: https://jlcpcb.com/partdetail/C139267; ComponentLink3Description: LCSC Part URL; ComponentLink3URL: https://lcsc.com/product-detail/Inductors-SMD_FH-Guangdong-Fenghua-Advanced-Tech-FH-Guangdong-Fenghua-Advanced-Tech-FHW1008UCR33JGT_C139267.html
footprint IND-1008 (1008 (2520M) Inductor)
pins: 1, 2

## FHW1008UCR39JGT
designator L?  Inductance: 390nH
Inductor, 390nH, ±5%, 1.12Ω, 470mA, SMD 1008; Manufacturer: FH(Guangdong Fenghua Advanced Tech); Manufacturer Part Number: FHW1008UCR39JGT; Self-Resonant Frequency: 480MHz; Q Factor: 45@100MHz; Package Size: 1008; JLCPCB Basic Part: No; JLCPCB Part Number: C318012; Supplier 1: LCSC; Category: Inductors; Supplier Part Number 1: C318012; Tolerance: ±5%; Rated Current: 470mA; DC Resistance: 1.12Ω; RoHS: Yes; ComponentLink1Description: Datasheet; ComponentLink1URL: https://wmsc.lcsc.com/wmsc/upload/file/pdf/v2/lcsc/2302231208_FH--Guangdong-Fenghua-Advanced-Tech-FHW1008UCR39JGT_C318012.pdf; ComponentLink2Description: JLCPCB Part URL; ComponentLink2URL: https://jlcpcb.com/partdetail/C318012; ComponentLink3Description: LCSC Part URL; ComponentLink3URL: https://lcsc.com/product-detail/Inductors-SMD_FH-Guangdong-Fenghua-Advanced-Tech-FH-Guangdong-Fenghua-Advanced-Tech-FHW1008UCR39JGT_C318012.html
footprint IND-1008 (1008 (2520M) Inductor)
pins: 1, 2

## FHW1008UCR47JGT
designator L?  Inductance: 470nH
Inductor, 470nH, ±5%, 1.19Ω, 470mA, SMD 1008; Manufacturer: FH(Guangdong Fenghua Advanced Tech); Manufacturer Part Number: FHW1008UCR47JGT; Self-Resonant Frequency: 450MHz; Q Factor: 45@100MHz; Package Size: 1008; JLCPCB Basic Part: No; JLCPCB Part Number: C318013; Supplier 1: LCSC; Category: Inductors; Supplier Part Number 1: C318013; Tolerance: ±5%; Rated Current: 470mA; DC Resistance: 1.19Ω; RoHS: Yes; ComponentLink1Description: Datasheet; ComponentLink1URL: https://wmsc.lcsc.com/wmsc/upload/file/pdf/v2/lcsc/2302231208_FH--Guangdong-Fenghua-Advanced-Tech-FHW1008UCR47JGT_C318013.pdf; ComponentLink2Description: JLCPCB Part URL; ComponentLink2URL: https://jlcpcb.com/partdetail/C318013; ComponentLink3Description: LCSC Part URL; ComponentLink3URL: https://lcsc.com/product-detail/Inductors-SMD_FH-Guangdong-Fenghua-Advanced-Tech-FH-Guangdong-Fenghua-Advanced-Tech-FHW1008UCR47JGT_C318013.html
footprint IND-1008 (1008 (2520M) Inductor)
pins: 1, 2

## FHW1008UCR56JGT
designator L?  Inductance: 560nH
Inductor, 560nH, ±5%, 1.33Ω, 400mA, SMD 1008; Manufacturer: FH(Guangdong Fenghua Advanced Tech); Manufacturer Part Number: FHW1008UCR56JGT; Self-Resonant Frequency: 415MHz; Q Factor: 45@100MHz; Package Size: 1008; JLCPCB Basic Part: No; JLCPCB Part Number: C75639; Supplier 1: LCSC; Category: Inductors; Supplier Part Number 1: C75639; Tolerance: ±5%; Rated Current: 400mA; DC Resistance: 1.33Ω; RoHS: Yes; ComponentLink1Description: Datasheet; ComponentLink1URL: https://wmsc.lcsc.com/wmsc/upload/file/pdf/v2/lcsc/2302231101_FH--Guangdong-Fenghua-Advanced-Tech-FHW1008UCR56JGT_C75639.pdf; ComponentLink2Description: JLCPCB Part URL; ComponentLink2URL: https://jlcpcb.com/partdetail/C75639; ComponentLink3Description: LCSC Part URL; ComponentLink3URL: https://lcsc.com/product-detail/Inductors-SMD_FH-Guangdong-Fenghua-Advanced-Tech-FH-Guangdong-Fenghua-Advanced-Tech-FHW1008UCR56JGT_C75639.html
footprint IND-1008 (1008 (2520M) Inductor)
pins: 1, 2

## FHW1008UCR68JGT
designator L?  Inductance: 680nH
Inductor, 680nH, ±5%, 1.47Ω, 400mA, SMD 1008; Manufacturer: FH(Guangdong Fenghua Advanced Tech); Manufacturer Part Number: FHW1008UCR68JGT; Self-Resonant Frequency: 375MHz; Q Factor: 45@100MHz; Package Size: 1008; JLCPCB Basic Part: No; JLCPCB Part Number: C318014; Supplier 1: LCSC; Category: Inductors; Supplier Part Number 1: C318014; Tolerance: ±5%; Rated Current: 400mA; DC Resistance: 1.47Ω; RoHS: Yes; ComponentLink1Description: Datasheet; ComponentLink1URL: https://wmsc.lcsc.com/wmsc/upload/file/pdf/v2/lcsc/2302231208_FH--Guangdong-Fenghua-Advanced-Tech-FHW1008UCR68JGT_C318014.pdf; ComponentLink2Description: JLCPCB Part URL; ComponentLink2URL: https://jlcpcb.com/partdetail/C318014; ComponentLink3Description: LCSC Part URL; ComponentLink3URL: https://lcsc.com/product-detail/Inductors-SMD_FH-Guangdong-Fenghua-Advanced-Tech-FH-Guangdong-Fenghua-Advanced-Tech-FHW1008UCR68JGT_C318014.html
footprint IND-1008 (1008 (2520M) Inductor)
pins: 1, 2

## IHHP1008AZER1R0M01
designator L?  Inductance: 1uH
Inductor, 1uH, ±20%, 40mΩ, 3.1A, SMD 1008; Manufacturer: Vishay Intertech; Manufacturer Part Number: IHHP1008AZER1R0M01; Saturation Current: 3.9A; Package Size: 1008; JLCPCB Basic Part: No; JLCPCB Part Number: C2041556; Supplier 1: LCSC; Category: Inductors; Supplier Part Number 1: C2041556; Tolerance: ±20%; Rated Current: 3.1A; DC Resistance: 40mΩ; RoHS: Yes; ComponentLink1Description: Datasheet; ComponentLink1URL: https://wmsc.lcsc.com/wmsc/upload/file/pdf/v2/lcsc/2304140030_Vishay-Intertech-IHHP1008AZER1R0M01_C2041556.pdf; ComponentLink2Description: JLCPCB Part URL; ComponentLink2URL: https://jlcpcb.com/partdetail/C2041556; ComponentLink3Description: LCSC Part URL; ComponentLink3URL: https://lcsc.com/product-detail/Inductors-SMD_Vishay-Intertech-Vishay-Intertech-IHHP1008AZER1R0M01_C2041556.html
footprint IND-1008 (1008 (2520M) Inductor)
pins: 1, 2

## LB2518T6R8M
designator L?  Inductance: 6.8uH
Inductor, 6.8uH, ±20%, 150mΩ, 195mA, SMD 1008; Manufacturer: Taiyo Yuden; Manufacturer Part Number: LB2518T6R8M; Self-Resonant Frequency: 7.96MHz; Package Size: 1008; JLCPCB Basic Part: No; JLCPCB Part Number: C223315; Supplier 1: LCSC; Category: Inductors; Supplier Part Number 1: C223315; Tolerance: ±20%; Rated Current: 195mA; DC Resistance: 150mΩ; RoHS: Yes; ComponentLink1Description: Datasheet; ComponentLink1URL: https://wmsc.lcsc.com/wmsc/upload/file/pdf/v2/lcsc/2304140030_Taiyo-Yuden-LB2518T6R8M_C223315.pdf; ComponentLink2Description: JLCPCB Part URL; ComponentLink2URL: https://jlcpcb.com/partdetail/C223315; ComponentLink3Description: LCSC Part URL; ComponentLink3URL: https://lcsc.com/product-detail/Inductors-SMD_Taiyo-Yuden-Taiyo-Yuden-LB2518T6R8M_C223315.html
footprint IND-1008 (1008 (2520M) Inductor)
pins: 1, 2

## LB2518T680K
designator L?  Inductance: 68uH
Inductor, 68uH, ±10%, 1.5Ω, 70mA, SMD 1008; Manufacturer: Taiyo Yuden; Manufacturer Part Number: LB2518T680K; Package Size: 1008; JLCPCB Basic Part: No; JLCPCB Part Number: C223334; Supplier 1: LCSC; Category: Inductors; Supplier Part Number 1: C223334; Tolerance: ±10%; Rated Current: 70mA; DC Resistance: 1.5Ω; RoHS: Yes; ComponentLink1Description: Datasheet; ComponentLink1URL: https://wmsc.lcsc.com/wmsc/upload/file/pdf/v2/lcsc/2304140030_Taiyo-Yuden-LB2518T680K_C223334.pdf; ComponentLink2Description: JLCPCB Part URL; ComponentLink2URL: https://jlcpcb.com/partdetail/C223334; ComponentLink3Description: LCSC Part URL; ComponentLink3URL: https://lcsc.com/product-detail/Inductors-SMD_Taiyo-Yuden-Taiyo-Yuden-LB2518T680K_C223334.html
footprint IND-1008 (1008 (2520M) Inductor)
pins: 1, 2

## LBC2518T1R0M
designator L?  Inductance: 1uH
Inductor, 1uH, ±20%, 80mΩ, 775mA, SMD 1008; Manufacturer: Taiyo Yuden; Manufacturer Part Number: LBC2518T1R0M; Self-Resonant Frequency: 7.96MHz; Package Size: 1008; JLCPCB Basic Part: No; JLCPCB Part Number: C223342; Supplier 1: LCSC; Category: Inductors; Supplier Part Number 1: C223342; Tolerance: ±20%; Rated Current: 775mA; DC Resistance: 80mΩ; RoHS: Yes; ComponentLink1Description: Datasheet; ComponentLink1URL: https://wmsc.lcsc.com/wmsc/upload/file/pdf/v2/lcsc/2304140030_Taiyo-Yuden-LBC2518T1R0M_C223342.pdf; ComponentLink2Description: JLCPCB Part URL; ComponentLink2URL: https://jlcpcb.com/partdetail/C223342; ComponentLink3Description: LCSC Part URL; ComponentLink3URL: https://lcsc.com/product-detail/Inductors-SMD_Taiyo-Yuden-Taiyo-Yuden-LBC2518T1R0M_C223342.html
footprint IND-1008 (1008 (2520M) Inductor)
pins: 1, 2

## LBC2518T1R0MR
designator L?  Inductance: 1uH
Inductor, 1uH, ±20%, 70mΩ, 890mA, SMD 1008; Manufacturer: Taiyo Yuden; Manufacturer Part Number: LBC2518T1R0MR; Package Size: 1008; JLCPCB Basic Part: No; JLCPCB Part Number: C223343; Supplier 1: LCSC; Category: Inductors; Supplier Part Number 1: C223343; Tolerance: ±20%; Rated Current: 890mA; DC Resistance: 70mΩ; RoHS: Yes; ComponentLink1Description: Datasheet; ComponentLink1URL: https://wmsc.lcsc.com/wmsc/upload/file/pdf/v2/lcsc/2304140030_Taiyo-Yuden-LBC2518T1R0MR_C223343.pdf; ComponentLink2Description: JLCPCB Part URL; ComponentLink2URL: https://jlcpcb.com/partdetail/C223343; ComponentLink3Description: LCSC Part URL; ComponentLink3URL: https://lcsc.com/product-detail/Inductors-SMD_Taiyo-Yuden-Taiyo-Yuden-LBC2518T1R0MR_C223343.html
footprint IND-1008 (1008 (2520M) Inductor)
pins: 1, 2

## LBC2518T1R5M
designator L?  Inductance: 1.5uH
Inductor, 1.5uH, ±20%, 110mΩ, 730mA, SMD 1008; Manufacturer: Taiyo Yuden; Manufacturer Part Number: LBC2518T1R5M; Package Size: 1008; JLCPCB Basic Part: No; JLCPCB Part Number: C223344; Supplier 1: LCSC; Category: Inductors; Supplier Part Number 1: C223344; Tolerance: ±20%; Rated Current: 730mA; DC Resistance: 110mΩ; RoHS: Yes; ComponentLink1Description: Datasheet; ComponentLink1URL: https://wmsc.lcsc.com/wmsc/upload/file/pdf/v2/lcsc/2304140030_Taiyo-Yuden-LBC2518T1R5M_C223344.pdf; ComponentLink2Description: JLCPCB Part URL; ComponentLink2URL: https://jlcpcb.com/partdetail/C223344; ComponentLink3Description: LCSC Part URL; ComponentLink3URL: https://lcsc.com/product-detail/Inductors-SMD_Taiyo-Yuden-Taiyo-Yuden-LBC2518T1R5M_C223344.html
footprint IND-1008 (1008 (2520M) Inductor)
pins: 1, 2

## LBC2518T4R7M
designator L?  Inductance: 4.7uH
Inductor, 4.7uH, ±20%, 200mΩ, 510mA, SMD 1008; Manufacturer: Taiyo Yuden; Manufacturer Part Number: LBC2518T4R7M; Package Size: 1008; JLCPCB Basic Part: No; JLCPCB Part Number: C223346; Supplier 1: LCSC; Category: Inductors; Supplier Part Number 1: C223346; Tolerance: ±20%; Rated Current: 510mA; DC Resistance: 200mΩ; RoHS: Yes; ComponentLink1Description: Datasheet; ComponentLink1URL: https://wmsc.lcsc.com/wmsc/upload/file/pdf/v2/lcsc/2304140030_Taiyo-Yuden-LBC2518T4R7M_C223346.pdf; ComponentLink2Description: JLCPCB Part URL; ComponentLink2URL: https://jlcpcb.com/partdetail/C223346; ComponentLink3Description: LCSC Part URL; ComponentLink3URL: https://lcsc.com/product-detail/Inductors-SMD_Taiyo-Yuden-Taiyo-Yuden-LBC2518T4R7M_C223346.html
footprint IND-1008 (1008 (2520M) Inductor)
pins: 1, 2

## LBC2518T100K
designator L?  Inductance: 10uH
Inductor, 10uH, ±10%, 360mΩ, 375mA, SMD 1008; Manufacturer: Taiyo Yuden; Manufacturer Part Number: LBC2518T100K; Package Size: 1008; JLCPCB Basic Part: No; JLCPCB Part Number: C223360; Supplier 1: LCSC; Category: Inductors; Supplier Part Number 1: C223360; Tolerance: ±10%; Rated Current: 375mA; DC Resistance: 360mΩ; RoHS: Yes; ComponentLink1Description: Datasheet; ComponentLink1URL: https://wmsc.lcsc.com/wmsc/upload/file/pdf/v2/lcsc/2304140030_Taiyo-Yuden-LBC2518T100K_C223360.pdf; ComponentLink2Description: JLCPCB Part URL; ComponentLink2URL: https://jlcpcb.com/partdetail/C223360; ComponentLink3Description: LCSC Part URL; ComponentLink3URL: https://lcsc.com/product-detail/Inductors-SMD_Taiyo-Yuden-Taiyo-Yuden-LBC2518T100K_C223360.html
footprint IND-1008 (1008 (2520M) Inductor)
pins: 1, 2

## LBC2518T101K
designator L?  Inductance: 100uH
Inductor, 100uH, ±10%, 3.7Ω, 125mA, SMD 1008; Manufacturer: Taiyo Yuden; Manufacturer Part Number: LBC2518T101K; Package Size: 1008; JLCPCB Basic Part: No; JLCPCB Part Number: C223365; Supplier 1: LCSC; Category: Inductors; Supplier Part Number 1: C223365; Tolerance: ±10%; Rated Current: 125mA; DC Resistance: 3.7Ω; RoHS: Yes; ComponentLink1Description: Datasheet; ComponentLink1URL: https://wmsc.lcsc.com/wmsc/upload/file/pdf/v2/lcsc/2304140030_Taiyo-Yuden-LBC2518T101K_C223365.pdf; ComponentLink2Description: JLCPCB Part URL; ComponentLink2URL: https://jlcpcb.com/partdetail/C223365; ComponentLink3Description: LCSC Part URL; ComponentLink3URL: https://lcsc.com/product-detail/Inductors-SMD_Taiyo-Yuden-Taiyo-Yuden-LBC2518T101K_C223365.html
footprint IND-1008 (1008 (2520M) Inductor)
pins: 1, 2

## LBC2518T101M
designator L?  Inductance: 100uH
Inductor, 100uH, ±20%, 3.7Ω, 125mA, SMD 1008; Manufacturer: Taiyo Yuden; Manufacturer Part Number: LBC2518T101M; Self-Resonant Frequency: 796kHz; Package Size: 1008; JLCPCB Basic Part: No; JLCPCB Part Number: C223354; Supplier 1: LCSC; Category: Inductors; Supplier Part Number 1: C223354; Tolerance: ±20%; Rated Current: 125mA; DC Resistance: 3.7Ω; RoHS: Yes; ComponentLink1Description: Datasheet; ComponentLink1URL: https://wmsc.lcsc.com/wmsc/upload/file/pdf/v2/lcsc/2304140030_Taiyo-Yuden-LBC2518T101M_C223354.pdf; ComponentLink2Description: JLCPCB Part URL; ComponentLink2URL: https://jlcpcb.com/partdetail/C223354; ComponentLink3Description: LCSC Part URL; ComponentLink3URL: https://lcsc.com/product-detail/Inductors-SMD_Taiyo-Yuden-Taiyo-Yuden-LBC2518T101M_C223354.html
footprint IND-1008 (1008 (2520M) Inductor)
pins: 1, 2

## LBC2518T150K
designator L?  Inductance: 15uH
Inductor, 15uH, ±10%, 650mΩ, 285mA, SMD 1008; Manufacturer: Taiyo Yuden; Manufacturer Part Number: LBC2518T150K; Package Size: 1008; JLCPCB Basic Part: No; JLCPCB Part Number: C223361; Supplier 1: LCSC; Category: Inductors; Supplier Part Number 1: C223361; Tolerance: ±10%; Rated Current: 285mA; DC Resistance: 650mΩ; RoHS: Yes; ComponentLink1Description: Datasheet; ComponentLink1URL: https://wmsc.lcsc.com/wmsc/upload/file/pdf/v2/lcsc/2304140030_Taiyo-Yuden-LBC2518T150K_C223361.pdf; ComponentLink2Description: JLCPCB Part URL; ComponentLink2URL: https://jlcpcb.com/partdetail/C223361; ComponentLink3Description: LCSC Part URL; ComponentLink3URL: https://lcsc.com/product-detail/Inductors-SMD_Taiyo-Yuden-Taiyo-Yuden-LBC2518T150K_C223361.html
footprint IND-1008 (1008 (2520M) Inductor)
pins: 1, 2